# Altium integrated library L78M05CDT.IntLib: 1 symbol
Pins are listed as number, name and electrical type; pins without a type are passive.

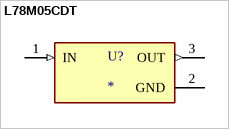
[diagram p0: symbol L78M05CDT]

## L78M05CDT
designator U?
7805 based precision 5V fixed regulator with output current of up to 500mA and wide temperature operating range of 0Â°C to 150Â°C.; MF: STMicroelectronics; MP: L78M05CDT; Package: TO-252-3 STMicroelectronics; Value: *; Availability: In Stock; SnapEDA_Link: https://www.snapeda.com/parts/L78M05CDT/STMicroelectronics/view-part/?ref=snap; Price: None; Check_prices: https://www.snapeda.com/parts/L78M05CDT/STMicroelectronics/view-part/?ref=eda
footprint VREG_L78M05CDT
pins: 1 IN (in), 2 GND (power), 3 OUT (out)